# Altium schematic symbol library ECS-160-18-5PX-GM-TR.SchLib: 1 symbol
Pins are listed as number, name and electrical type; pins without a type are passive.

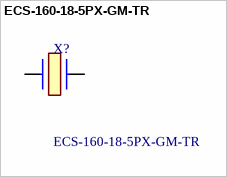
[diagram p0: symbol ECS-160-18-5PX-GM-TR]

## ECS-160-18-5PX-GM-TR
designator X?
Crystals 16.000 MHz 18 pF CSM-7X +/-30/30 ppm -20 - +70C RoHS; Manufacturer_Name: ECS; Geometry.Height: 4.3mm; Mouser Part Number: 520-160-18-5PX-GM-TR; Mouser Price/Stock: https://www.mouser.co.uk/ProductDetail/ECS/ECS-160-18-5PX-GM-TR?qs=amGC7iS6iy9jy4CztfLIlw%3D%3D; Manufacturer_Part_Number: ECS-160-18-5PX-GM-TR; Datasheet Link: *
footprint ECS160185PXGMTR
pins: 1, 2